# Altium integrated library Big_Library_Voltage_Reference.IntLib: 2 symbols
Pins are listed as number, name and electrical type; pins without a type are passive.

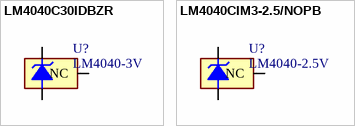
[diagram p0: symbols LM4040C30IDBZR to LM4040CIM3-2.5/NOPB]

## LM4040C30IDBZR
designator U?, comment LM4040-3V
Precision Micropower Shunt Voltage Reference, 3-pin SOT-23, Pb-Free; Part Number: LM4040C30IDBZR; Output Voltage: 3V; Tolerance: 0.5%; ComponentLink1Description: Link; ComponentLink1URL: https://ozdisan.com/integrated-circuits-ics/power-management-ics/voltage-reference-ics/LM4040C30IDBZR/744149; Package: SOT23-3
footprint MF03A_L (SOT23, 3-Leads, Body 2.9x1.3mm, Pitch 0.95mm, Lead Span 2.4mm, IPC High Density)
footprint MF03A_M (SOT23, 3-Leads, Body 2.9x1.3mm, Pitch 0.95mm, Lead Span 2.4mm, IPC Low Density)
footprint MF03A_N (SOT23, 3-Leads, Body 2.9x1.3mm, Pitch 0.95mm, Lead Span 2.4mm, IPC Medium Density)
pins: 1 +V, 2 -V, 3 NC

## LM4040CIM3-2.5/NOPB
designator U?, comment LM4040-2.5V
Precision Micropower Shunt Voltage Reference, 3-pin SOT-23, Pb-Free; Output Voltage: 2.5V; Tolerance: 0.5%; ComponentLink1Description: Link; ComponentLink1URL: https://ozdisan.com/integrated-circuits-ics/power-management-ics/voltage-reference-ics/LM4040CIM3-2-5NOPB/528186; Package: SOT23-3
footprint MF03A_L (SOT23, 3-Leads, Body 2.9x1.3mm, Pitch 0.95mm, Lead Span 2.4mm, IPC High Density)
footprint MF03A_M (SOT23, 3-Leads, Body 2.9x1.3mm, Pitch 0.95mm, Lead Span 2.4mm, IPC Low Density)
footprint MF03A_N (SOT23, 3-Leads, Body 2.9x1.3mm, Pitch 0.95mm, Lead Span 2.4mm, IPC Medium Density)
pins: 1 +V, 2 -V, 3 NC